# Altium footprint library TEXASINSTRUMENTS_PKG_DRL0008A.PcbLib: 1 footprints
Each footprint in its own frame and in the unit in brackets; x right, y up, seen from the top. Pads: shape width x height; smd on the part's side, far side on the other; paste and mask are expansions set on the pad; w line width, h text height; cw(c..) or ccw(c..) is an arc to the next point about the centre after c.
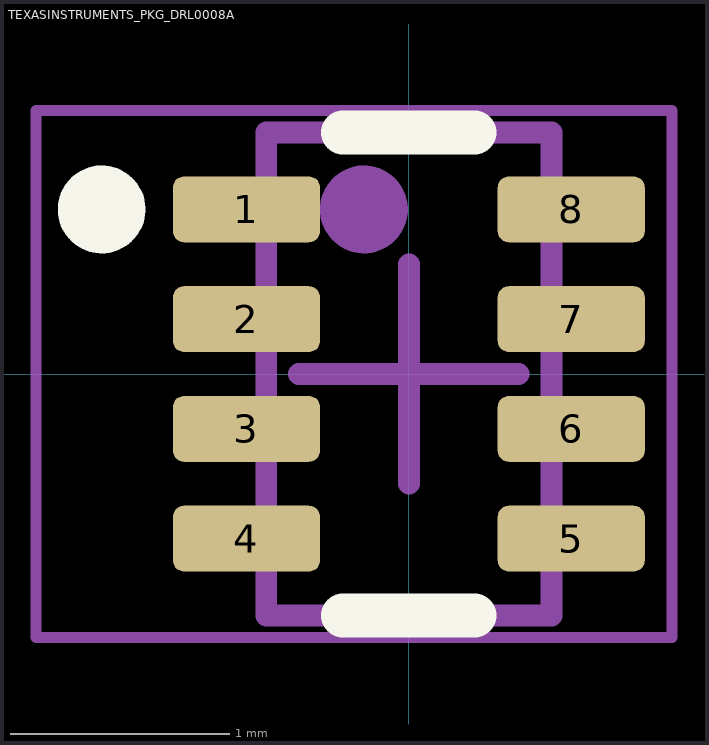
[diagram p0: the footprint, top view; thin cyan lines are the x and y axes]

## TEXASINSTRUMENTS_PKG_DRL0008A [mm]
height 0.6
pads (8):
  rrect33% 0.67x0.3 smd mask+0.05: 1(-0.74,0.75) 2(-0.74,0.25) 3(-0.74,-0.25) 4(-0.74,-0.75) 5(0.74,-0.75) 6(0.74,-0.25) 7(0.74,0.25) 8(0.74,0.75)
Top Overlay:
  circle w0.2: c-1.4,0.75 r0.1
  lines w0.2: -0.3,-1.1 0.3,-1.1 ; -0.3,1.1 0.3,1.1
Mechanical 13:
  circle w0.2: c-0.205,0.75 r0.1
  lines w0.1: -0.65,-1.1 0.65,-1.1 0.65,1.1 -0.65,1.1 -0.65,-1.1
Mechanical 15:
  lines w0.05: -1.7,-1.2 1.2,-1.2 1.2,1.2 -1.7,1.2 -1.7,-1.2
  lines w0.1: -0.5,0 0.5,0 ; 0,-0.5 0,0.5
3D body "TEXASINSTRUMENTS_PKG_DRL0008A.stp": height 0.6, standoff 0, extent -0.8,-1.05 0.8,1.05